# Altium schematic symbol library ACPL-C790-500E.SchLib: 1 symbol
Pins are listed as number, name and electrical type; pins without a type are passive.

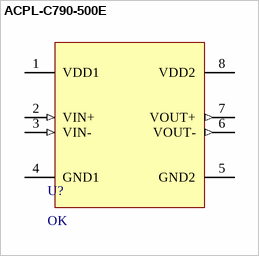
[diagram p0: symbol ACPL-C790-500E]

## ACPL-C790-500E
designator U?, comment OK
Precision Miniature Isolation Amplifiers
pins: 1 VDD1 (power), 2 VIN+ (in), 3 VIN- (in), 4 GND1, 5 GND2, 6 VOUT- (out), 7 VOUT+ (out), 8 VDD2 (power)